# Altium schematic symbol library Ethernet.SchLib: 1 symbol
Pins are listed as number, name and electrical type; pins without a type are passive.

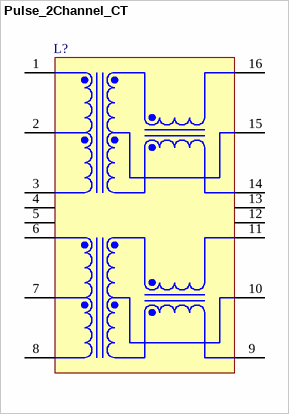
[diagram p0: symbol Pulse_2Channel_CT]

## Pulse_2Channel_CT
designator L?
pins: 1 TD+, 2 TCT, 3 TD-, 4 NC, 5 NC, 6 RD+, 7 RCT, 8 RD-, 9 RX-, 10 RXCT, 11 RX+, 12 NC, 13 NC, 14 TX-, 15 TXCT, 16 TX+